# EAGLE library part STA350BW (library sta350bw)
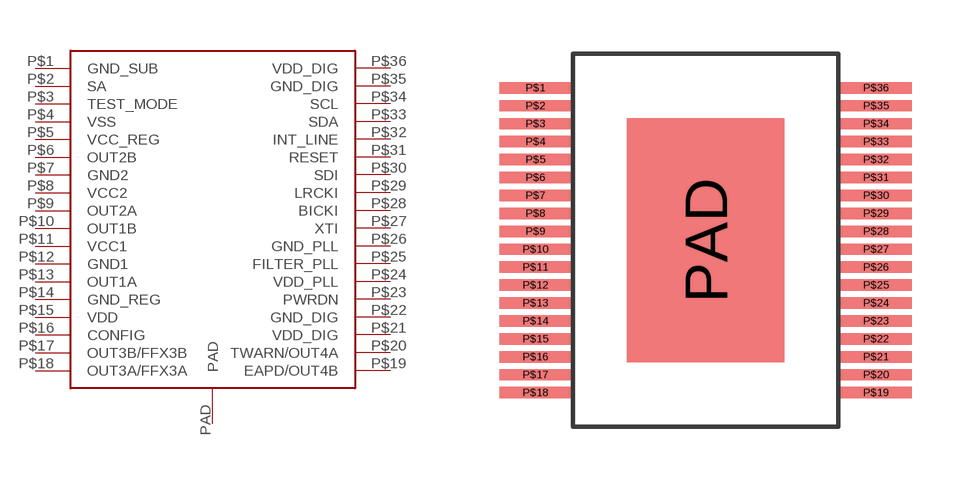
[diagram p0: symbol with the pads of POWERSSO-36; footprint POWERSSO-36]

Designator prefix U

## STA350BW  [POWERSSO-36]
P$1  GND_SUB
P$2  SA
P$3  TEST_MODE
P$4  VSS
P$5  VCC_REG
P$6  OUT2B
P$7  GND2
P$8  VCC2
P$9  OUT2A
P$10  OUT1B
P$11  VCC1
P$12  GND1
P$13  OUT1A
P$14  GND_REG
P$15  VDD
P$16  CONFIG
P$17  OUT3B/FFX3B
P$18  OUT3A/FFX3A
P$19  EAPD/OUT4B
P$20  TWARN/OUT4A
P$21  VDD_DIG
P$22  GND_DIG
P$23  PWRDN
P$24  VDD_PLL
P$25  FILTER_PLL
P$26  GND_PLL
P$27  XTI
P$28  BICKI
P$29  LRCKI
P$30  SDI
P$31  RESET
P$32  INT_LINE
P$33  SDA
P$34  SCL
P$35  GND_DIG
P$36  VDD_DIG
PAD  PAD

## Footprint POWERSSO-36 (pad centres in mm)
smd 2 x 0.318: P$1 -4.75,4.25; P$2 -4.75,3.75; P$3 -4.75,3.25; P$4 -4.75,2.75; P$5 -4.75,2.25; P$6 -4.75,1.75; P$7 -4.75,1.25; P$8 -4.75,0.75; P$9 -4.75,0.25; P$10 -4.75,-0.25; P$11 -4.75,-0.75; P$12 -4.75,-1.25; P$13 -4.75,-1.75; P$14 -4.75,-2.25; P$15 -4.75,-2.75; P$16 -4.75,-3.25; P$17 -4.75,-3.75; P$18 -4.75,-4.25; P$19 4.75,-4.25; P$20 4.75,-3.75; P$21 4.75,-3.25; P$22 4.75,-2.75; P$23 4.75,-2.25; P$24 4.75,-1.75; P$25 4.75,-1.25; P$26 4.75,-0.75; P$27 4.75,-0.25; P$28 4.75,0.25; P$29 4.75,0.75; P$30 4.75,1.25; P$31 4.75,1.75; P$32 4.75,2.25; P$33 4.75,2.75; P$34 4.75,3.25; P$35 4.75,3.75; P$36 4.75,4.25
smd 4.4 x 6.8: PAD 0,0